# EAGLE library part KAAF-5050RGBS-13 (library KAAF-5050RGBS-13)
RGB LED 5x5mm Kingbright KAAF-5050RGBS-13, KAAF Series 3 RGB LED, 470 / 525 / 625 nm 6-Pin, Round Lens SMD package Source: Datasheet <http://uk.rs-online.com/web/p/products/1654417>
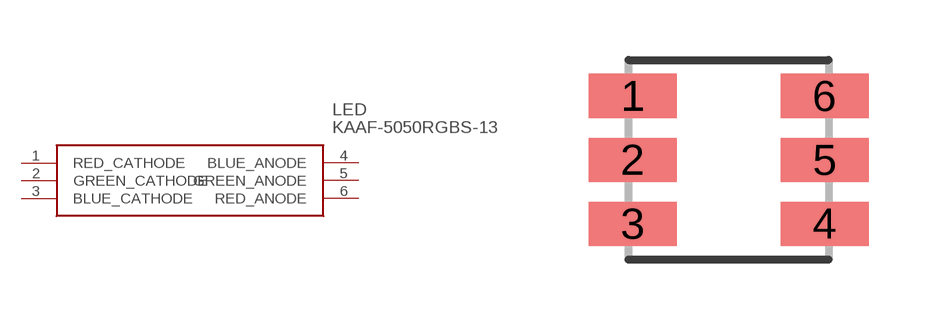
[diagram p0: symbol with the pads of KAAF-5050RGBS-13; footprint KAAF-5050RGBS-13]

Designator prefix LED

## KAAF-5050RGBS-13 (Description: RGB LED 5x5mm Kingbright KAAF-5050RGBS-13, KAAF Series 3 RGB LED, 470 / 525 / 625 nm 6-Pin, Round Lens SMD package; Height: mm; Manufacturer_Name: Kingbright; Manufacturer_Part_Number: KAAF-5050RGBS-13; RS_Part_Number: 1654417; RS_Price-Stock: http://uk.rs-online.com/web/p/products/1654417)  [KAAF-5050RGBS-13]
1  RED_CATHODE
2  GREEN_CATHODE
3  BLUE_CATHODE
4  BLUE_ANODE
5  GREEN_ANODE
6  RED_ANODE

## Footprint KAAF-5050RGBS-13 (pad centres in mm)
5.0mm x 5.0mm FULL-COLOR SURFACE MOUNT LED LAMP
smd 2.2 x 1.1: 1 -2.4,1.6; 2 -2.4,0; 3 -2.4,-1.6; 4 2.4,-1.6; 5 2.4,0; 6 2.4,1.6